# Altium schematic symbol library SK86L-TP.SchLib: 1 symbol
Pins are listed as number, name and electrical type; pins without a type are passive.

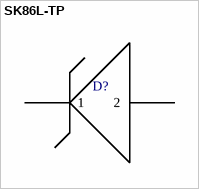
[diagram p0: symbol SK86L-TP]

## SK86L-TP
designator D?  (value not drawn)
PartNumber: SK86L-TP; PartDescription: DIODE SCHOTTKY 60V 8A DO214AB; Manufacturer: Micro Commercial Co; Package Type: SMC; Supplier 1: Digi-Key; Supplier Part Number 1: SK86L-TPMSCT-ND
footprint SMC_VER
pins: 1, 2